# Altium footprint library MDK_UltraZohm_Adapter.PcbLib: 14 footprints
Each footprint in its own frame and in the unit in brackets; x right, y up, seen from the top. Pads: shape width x height; smd on the part's side, far side on the other; paste and mask are expansions set on the pad; w line width, h text height; cw(c..) or ccw(c..) is an arc to the next point about the centre after c.
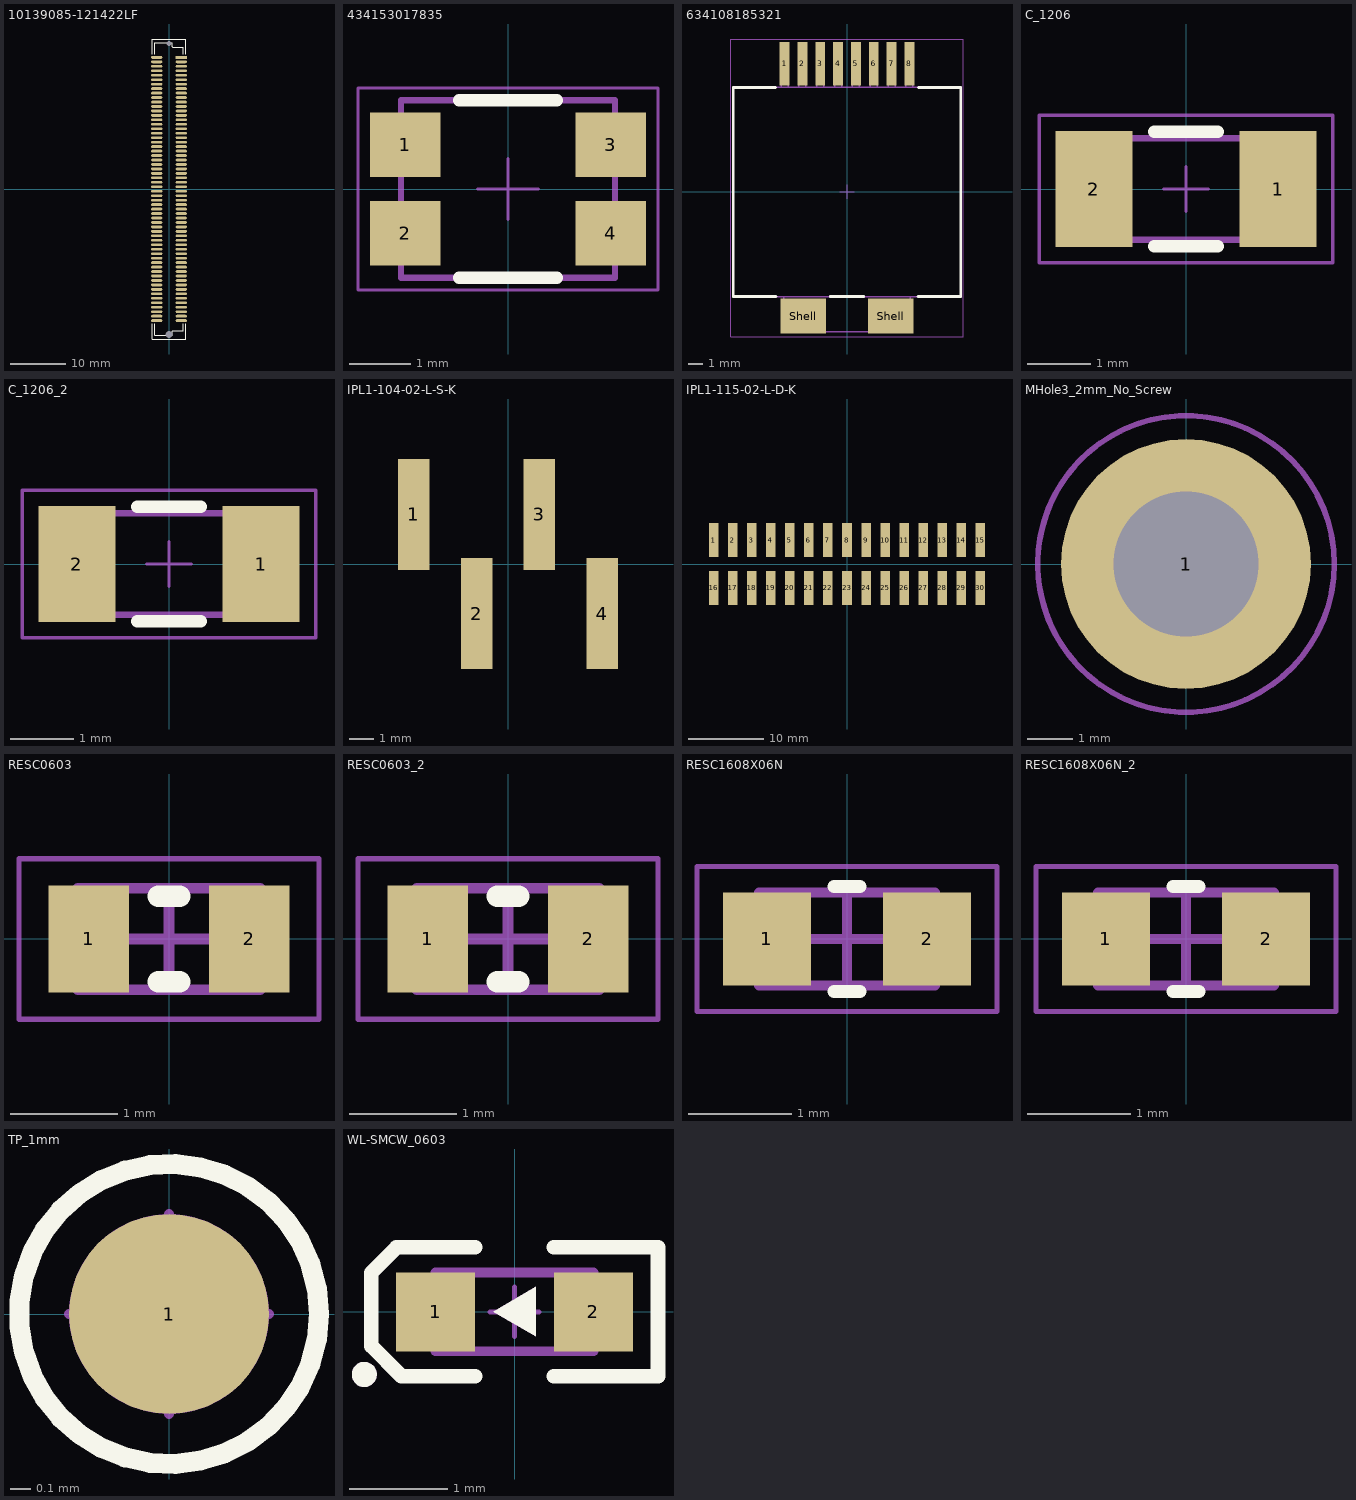
[diagram p0: the footprints below, top view; thin cyan lines are the x and y axes]

## 10139085-121422LF [mm]
pads (122):
  rect 2x0.5 smd: 1(2.2,23.6)
  oval 2x0.5 smd: 2(2.2,22.8) 3(2.2,22) 4(2.2,21.2) 5(2.2,20.4) 6(2.2,19.6) 7(2.2,18.8) 8(2.2,18) 9(2.2,17.2) 10(2.2,16.4) 11(2.2,15.6) 12(2.2,14.8) 13(2.2,14) 14(2.2,13.2) 15(2.2,12.4) 16(2.2,11.6) 17(2.2,10.8) 18(2.2,10) 19(2.2,9.2) 20(2.2,8.4) 21(2.2,7.6) 22(2.2,6.8) 23(2.2,6) 24(2.2,5.2) 25(2.2,4.4) 26(2.2,3.6) 27(2.2,2.8) 28(2.2,2) 29(2.2,1.2) 30(2.2,0.4) 31(2.2,-0.4) 32(2.2,-1.2) 33(2.2,-2) 34(2.2,-2.8) 35(2.2,-3.6) 36(2.2,-4.4) 37(2.2,-5.2) 38(2.2,-6) 39(2.2,-6.8) 40(2.2,-7.6) 41(2.2,-8.4) 42(2.2,-9.2) 43(2.2,-10) 44(2.2,-10.8) 45(2.2,-11.6) 46(2.2,-12.4) 47(2.2,-13.2) 48(2.2,-14) 49(2.2,-14.8) 50(2.2,-15.6) 51(2.2,-16.4) 52(2.2,-17.2) 53(2.2,-18) 54(2.2,-18.8) 55(2.2,-19.6) 56(2.2,-20.4) 57(2.2,-21.2) 58(2.2,-22) 59(2.2,-22.8) 60(2.2,-23.6) 61(-2.2,23.6) 62(-2.2,22.8) 63(-2.2,22) 64(-2.2,21.2) 65(-2.2,20.4) 66(-2.2,19.6) 67(-2.2,18.8) 68(-2.2,18) 69(-2.2,17.2) 70(-2.2,16.4) 71(-2.2,15.6) 72(-2.2,14.8) 73(-2.2,14) 74(-2.2,13.2) 75(-2.2,12.4) 76(-2.2,11.6) 77(-2.2,10.8) 78(-2.2,10) 79(-2.2,9.2) 80(-2.2,8.4) 81(-2.2,7.6) 82(-2.2,6.8) 83(-2.2,6) 84(-2.2,5.2) 85(-2.2,4.4) 86(-2.2,3.6) 87(-2.2,2.8) 88(-2.2,2) 89(-2.2,1.2) 90(-2.2,0.4) 91(-2.2,-0.4) 92(-2.2,-1.2) 93(-2.2,-2) 94(-2.2,-2.8) 95(-2.2,-3.6) 96(-2.2,-4.4) 97(-2.2,-5.2) 98(-2.2,-6) 99(-2.2,-6.8) 100(-2.2,-7.6) 101(-2.2,-8.4) 102(-2.2,-9.2) 103(-2.2,-10) 104(-2.2,-10.8) 105(-2.2,-11.6) 106(-2.2,-12.4) 107(-2.2,-13.2) 108(-2.2,-14) 109(-2.2,-14.8) 110(-2.2,-15.6) 111(-2.2,-16.4) 112(-2.2,-17.2) 113(-2.2,-18) 114(-2.2,-18.8) 115(-2.2,-19.6) 116(-2.2,-20.4) 117(-2.2,-21.2) 118(-2.2,-22) 119(-2.2,-22.8) 120(-2.2,-23.6)
  round 0 hole 1.3: ""(0,-26.1)
  round 0 hole 0.9: ""(0,26.1)
Top Overlay:
  lines w0.2: -3,-24.2 -3,-26.9 3,-26.9 3,-24.2 ; -3,24.2 -3,26.9 3,26.9 3,24.2 ; -2.6,-24.2 -2.6,-26.2 0.6,-26.2 0.6,-25.5 0.7,-25.4 2.6,-25.4 2.6,-24.2 ; -2.6,24.2 -2.6,26.2 0.6,26.2 0.6,25.5 0.7,25.4 2.6,25.4 2.6,24.2
3D body "10139085-121422LF.stp": height 4.72, standoff -0.03, extent -3,-26.9 3,26.9

## 434153017835 [mm]
pads (4):
  rect 1.15x1.05 smd: 1(-1.675,0.725) 2(-1.675,-0.725) 3(1.675,0.725) 4(1.675,-0.725)
Top Overlay:
  lines w0.2: -0.8,-1.45 0.8,-1.45 ; -0.8,1.45 0.8,1.45
Mechanical 13:
  lines w0.1: -1.75,-1.45 1.75,-1.45 1.75,1.45 -1.75,1.45 -1.75,-1.45
Mechanical 15:
  lines w0.05: -0.5,0 0.5,0 ; 0,-0.5 0,0.5 ; -2.45,-1.65 2.45,-1.65 2.45,1.65 -2.45,1.65 -2.45,-1.65
3D body "434153017835.stp": height 1.7, standoff 0, extent -2.147,-1.45 2.147,1.45

## 634108185321 [mm]
pads (10):
  rect 0.7x3.1 smd: 1(-4.445,9.15) 2(-3.175,9.15) 3(-1.905,9.15) 4(-0.635,9.15) 5(0.635,9.15) 6(1.905,9.15) 7(3.175,9.15) 8(4.445,9.15)
  rect 3.25x2.5 smd: Shell(-3.125,-8.85) Shell(3.125,-8.85)
Top Overlay:
  lines w0.2: -5.1,7.45 -8.1,7.45 -8.1,-7.45 -5.05,-7.45 ; -1.2,-7.45 1.2,-7.45 ; 5.05,-7.45 8.1,-7.45 8.1,7.45 5.1,7.45
Mechanical 11:
  lines w0.1: -4.695,7.45 -4.695,9.1 -4.195,9.1 -4.195,7.45 ; -4.5,-7.45 -4.5,-9.95 4.5,-9.95 4.5,-7.45 ; -3.425,7.45 -3.425,9.1 -2.925,9.1 -2.925,7.45 ; -2.155,7.45 -2.155,9.1 -1.655,9.1 -1.655,7.45 ; -0.885,7.45 -0.885,9.1 -0.385,9.1 -0.385,7.45 ; 0.385,7.45 0.385,9.1 0.885,9.1 0.885,7.45 ; 1.655,7.45 1.655,9.1 2.155,9.1 2.155,7.45 ; 2.925,7.45 2.925,9.1 3.425,9.1 3.425,7.45 ; 4.195,7.45 4.195,9.1 4.695,9.1 4.695,7.45 ; -8.1,-7.45 -8.1,7.45 8.1,7.45 8.1,-7.45 -8.1,-7.45
  text ".Designator" at -2.5,-0.75 h1.5
Mechanical 13:
  lines w0.1: -4.695,7.45 -4.695,9.1 -4.195,9.1 -4.195,7.45 ; -4.5,-7.45 -4.5,-9.95 4.5,-9.95 4.5,-7.45 ; -3.425,7.45 -3.425,9.1 -2.925,9.1 -2.925,7.45 ; -2.155,7.45 -2.155,9.1 -1.655,9.1 -1.655,7.45 ; -0.885,7.45 -0.885,9.1 -0.385,9.1 -0.385,7.45 ; 0.385,7.45 0.385,9.1 0.885,9.1 0.885,7.45 ; 1.655,7.45 1.655,9.1 2.155,9.1 2.155,7.45 ; 2.925,7.45 2.925,9.1 3.425,9.1 3.425,7.45 ; 4.195,7.45 4.195,9.1 4.695,9.1 4.695,7.45 ; -8.1,-7.45 8.1,-7.45 8.1,7.45 -8.1,7.45 -8.1,-7.45
Mechanical 15:
  lines w0.05: -0.5,0 0.5,0 ; 0,-0.5 0,0.5 ; -8.3,-10.3 -8.3,10.9 8.3,10.9 8.3,-10.3 -8.3,-10.3
3D body "634108185321.stp": height 13.48, standoff 0.02, extent -8.16,-9.95 8.16,9.107

## C_1206 [mm]
pads (2):
  rect 1.21x1.82 smd: 1(1.45,0) 2(-1.45,0)
Top Overlay:
  lines w0.2: -0.5,-0.9 0.5,-0.9 ; -0.5,0.9 0.5,0.9
Top Courtyard:
  lines w0.1: -1.1,-0.8 -1.1,0.8 ; 1.1,-0.8 1.1,0.8 ; -1.6,-0.8 1.6,-0.8 1.6,0.8 -1.6,0.8 -1.6,-0.8
  text ".Designator" at 5.814,1.409 h1.02
Mechanical 15:
  lines w0.05: -0.35,0 0.35,0 ; 0,-0.35 0,0.35 ; -2.31,-1.16 2.31,-1.16 2.31,1.16 -2.31,1.16 -2.31,-1.16
3D body "User Library-CAPC3216X___CAPC3216X180N.STEP": height 1.82, standoff 0, extent -1.6,-0.81 1.6,0.81

## C_1206_2 [mm]
pads (2):
  rect 1.21x1.82 smd: 1(1.45,0) 2(-1.45,0)
Top Overlay:
  lines w0.2: -0.5,-0.9 0.5,-0.9 ; -0.5,0.9 0.5,0.9
Top Courtyard:
  lines w0.1: -1.1,-0.8 -1.1,0.8 ; 1.1,-0.8 1.1,0.8 ; -1.6,-0.8 -1.6,0.8 1.6,0.8 1.6,-0.8 -1.6,-0.8
  text ".Designator" at -6.299,-0.838 h1.02
Mechanical 15:
  lines w0.05: -0.35,0 0.35,0 ; 0,-0.35 0,0.35 ; -2.31,-1.16 2.31,-1.16 2.31,1.16 -2.31,1.16 -2.31,-1.16
3D body "User Library-CAPC3216X___CAPC3216X180N.STEP": height 1.82, standoff 0, extent -1.6,-0.81 1.6,0.81

## IPL1-104-02-L-S-K [mm]
pads (4):
  rect 1.27x4.5 smd: 1(-3.81,2) 2(-1.27,-2) 3(1.27,2) 4(3.81,-2)
3D body "IPL1-104-02-L-S-K.stp": height 8.13, standoff -0.64, extent -5.842,-3.569 5.842,3.747

## IPL1-115-02-L-D-K [mm]
pads (30):
  rect 1.27x4.5 smd: 1(-17.78,3.2) 2(-15.24,3.2) 3(-12.7,3.2) 4(-10.16,3.2) 5(-7.62,3.2) 6(-5.08,3.2) 7(-2.54,3.2) 8(0,3.2) 9(2.54,3.2) 10(5.08,3.2) 11(7.62,3.2) 12(10.16,3.2) 13(12.7,3.2) 14(15.24,3.2) 15(17.78,3.2) 16(-17.78,-3.2) 17(-15.24,-3.2) 18(-12.7,-3.2) 19(-10.16,-3.2) 20(-7.62,-3.2) 21(-5.08,-3.2) 22(-2.54,-3.2) 23(0,-3.2) 24(2.54,-3.2) 25(5.08,-3.2) 26(7.62,-3.2) 27(10.16,-3.2) 28(12.7,-3.2) 29(15.24,-3.2) 30(17.78,-3.2)
3D body "IPL1-115-02-L-D-K.stp": height 8.13, standoff -0.64, extent -19.812,-4.788 19.812,4.788

## MHole3_2mm_No_Screw [mm]
pads (1):
  round 5.5 hole 3.2: 1(0,0)
Mechanical 13:
  circle w0.1: c0,0 r3.25
  circle w0.1: c0,0 r1.6
Mechanical 14:
  circle w0.1: c0,0 r1.6
  circle w0.1: c0,0 r3.25
Mechanical 15:
  circle w0.05: c0,0 r3.3
  lines w0.05: -1,0 1,0 ; 0,-1 0,1
Mechanical 16:
  circle w0.05: c0,0 r3.3

## RESC0603 [mm]
pads (2):
  rect 0.75x1 smd: 1(-0.75,0) 2(0.75,0)
Top Overlay:
  lines w0.2: -0.1,-0.4 0.1,-0.4 ; -0.1,0.4 0.1,0.4
Mechanical 13:
  lines w0.1: -0.85,-0.475 -0.85,0.475 0.85,0.475 0.85,-0.475 -0.85,-0.475
Mechanical 15:
  lines w0.05: -1.4,-0.75 -1.4,0.75 1.4,0.75 1.4,-0.75 -1.4,-0.75
  lines w0.1: -0.475,0 0.475,0 ; 0,-0.475 0,0.475
3D body "RESC1608X06N.step": height 0.55, standoff 0, extent -0.85,-0.475 0.85,0.475

## RESC0603_2 [mm]
pads (2):
  rect 0.75x1 smd: 1(-0.75,0) 2(0.75,0)
Top Overlay:
  lines w0.2: -0.1,-0.4 0.1,-0.4 ; -0.1,0.4 0.1,0.4
Mechanical 13:
  lines w0.1: -0.85,-0.475 0.85,-0.475 0.85,0.475 -0.85,0.475 -0.85,-0.475
Mechanical 15:
  lines w0.05: -1.4,-0.75 1.4,-0.75 1.4,0.75 -1.4,0.75 -1.4,-0.75
  lines w0.1: -0.475,0 0.475,0 ; 0,-0.475 0,0.475
3D body "RESC1608X06N.step": height 0.55, standoff 0, extent -0.85,-0.475 0.85,0.475

## RESC1608X06N [mm]
pads (2):
  rect 0.85x0.9 smd: 1(-0.775,0) 2(0.775,0)
Top Overlay:
  lines w0.127: -0.127,-0.508 0.127,-0.508 ; -0.127,0.508 0.127,0.508
Top Courtyard:
  lines w0.1: -0.85,-0.45 0.85,-0.45 0.85,0.45 -0.85,0.45 -0.85,-0.45
  text ".Designator" at 0,0 h1.02
Mechanical 15:
  lines w0.05: -1.45,-0.7 1.45,-0.7 1.45,0.7 -1.45,0.7 -1.45,-0.7
  lines w0.1: -0.45,0 0.45,0 ; 0,-0.45 0,0.45
3D body "0603-Rchip.step": height 0.44, standoff -0.01, extent -0.8,-0.4 0.8,0.4

## RESC1608X06N_2 [mm]
pads (2):
  rect 0.85x0.9 smd: 1(-0.775,0) 2(0.775,0)
Top Overlay:
  lines w0.127: -0.127,-0.508 0.127,-0.508 ; -0.127,0.508 0.127,0.508
Top Courtyard:
  lines w0.1: -0.85,-0.45 0.85,-0.45 0.85,0.45 -0.85,0.45 -0.85,-0.45
  text ".Designator" at 0,0 h1.02
Mechanical 15:
  lines w0.05: -1.45,-0.7 1.45,-0.7 1.45,0.7 -1.45,0.7 -1.45,-0.7
  lines w0.1: -0.45,0 0.45,0 ; 0,-0.45 0,0.45
3D body "0603-Rchip.step": height 0.44, standoff -0.01, extent -0.8,-0.4 0.8,0.4

## TP_1mm [mm]
pads (1):
  round 1 smd paste-1: 1(0,0)
Top Overlay:
  circle w0.1: c0,0 r0.75
  text ".Comment" at 1.2,-0.7 h1
Top Courtyard:
  circle w0.6: c0,0 r0.2
  text ".Designator" at -3.906,0.5 h1.02
Mechanical 15:
  circle w0.05: c0,0 r0.75
  lines w0.05: -0.5,0 0.5,0 ; 0,-0.5 0,0.5

## WL-SMCW_0603 [mm]
pads (2):
  rect 0.8x0.8 smd: 1(-0.8,0) 2(0.8,0)
Top Overlay:
  circle w0.127: c-1.524,-0.635 r0.064
  region: -0.217,0.002 0.217,-0.248 0.217,0.252
  lines w0.15: -0.4,-0.654 -1.146,-0.654 -1.454,-0.346 -1.454,0.396 -1.196,0.654 -0.4,0.654 ; 0.4,-0.654 1.454,-0.654 1.454,0.654 0.4,0.654
Top Courtyard:
  circle w0.127: c-1.524,-0.635 r0.064
  region: -0.217,0.002 0.217,-0.248 0.217,0.252
  lines w0.1: -0.8,-0.4 -0.8,0.4 0.8,0.4 0.8,-0.4 -0.8,-0.4
  text ".Designator" at -1.327,0.252 h1.02
Mechanical 15:
  lines w0.05: -0.25,0 0.25,0 ; 0,-0.25 0,0.25
3D body "WL-SMCW_0603_LED.stp": height 0.7, standoff 0, extent -0.8,-0.4 0.8,0.4